# EAGLE library part MSTBV9 (library con-phoenix-508)
PHOENIX
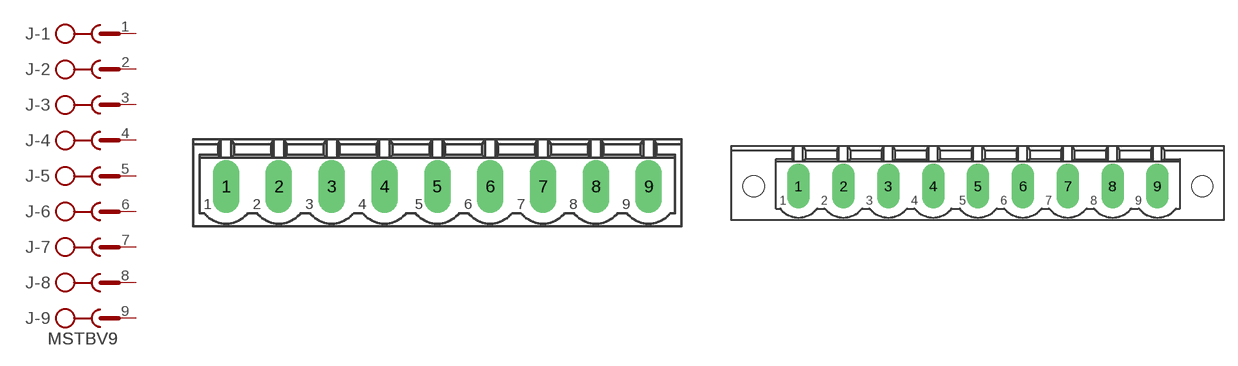
[diagram p60: symbol with the pads of MSTBV9; footprints MSTBV9, MSTBV9-GF]

Designator prefix J; gates -1=SK -2=SK -3=SK -4=SK -5=SK -6=SK -7=SK -8=SK -9=SKV

## MSTBV9  [MSTBV9]
1  -1:1  pas
2  -2:1  pas
3  -3:1  pas
4  -4:1  pas
5  -5:1  pas
6  -6:1  pas
7  -7:1  pas
8  -8:1  pas
9  -9:1  pas

## MSTBV9-GF  [MSTBV9-GF]
Pads as for MSTBV9

## Footprint MSTBV9 (pad centres in mm)
PHOENIX
drill 1.397 pad 2.54 long: 1 -20.32,0; 2 -15.24,0; 3 -10.16,0; 4 -5.08,0; 5 0,0; 6 5.08,0; 7 10.16,0; 8 15.24,0; 9 20.32,0

## Footprint MSTBV9-GF (pad centres in mm)
PHOENIX
drill 1.397 pad 2.54 long: 1 -20.32,0; 2 -15.24,0; 3 -10.16,0; 4 -5.08,0; 5 0,0; 6 5.08,0; 7 10.16,0; 8 15.24,0; 9 20.32,0
hole 2.4 at -25.4,0
hole 2.4 at 25.4,0